# Altium schematic symbol library Mux 8..1 CD4051BMG4.SchLib: 1 symbol
Pins are listed as number, name and electrical type; pins without a type are passive.

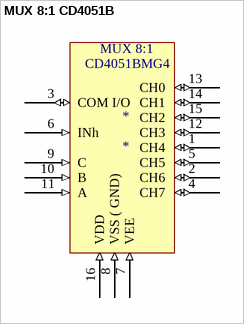
[diagram p0: symbol MUX 8:1 CD4051B]

## MUX 8:1 CD4051B
designator *
footprint MUX 8:1*
pins: 1 CH4 (io), 2 CH6 (io), 3 COM I/O (io), 4 CH7 (io), 5 CH5 (io), 6 INh (in), 7 VEE (in) "Negative Power Input", 8 VSS ( GND) (in), 9 C (in) "Selection Channel C (MSB)", 10 B (in) "Selection Channel B", 11 A (in) "Salection Channel A (LSB)", 12 CH3 (io), 13 CH0 (io), 14 CH1 (io), 15 CH2 (io), 16 VDD (in) "Positive Power Inuput"
text: MUX 8:1; CD4051BMG4